# Altium footprint library CurrentSense.PcbLib: 4 footprints
Each footprint in its own frame and in the unit in brackets; x right, y up, seen from the top. Pads: shape width x height; smd on the part's side, far side on the other; paste and mask are expansions set on the pad; w line width, h text height; cw(c..) or ccw(c..) is an arc to the next point about the centre after c.
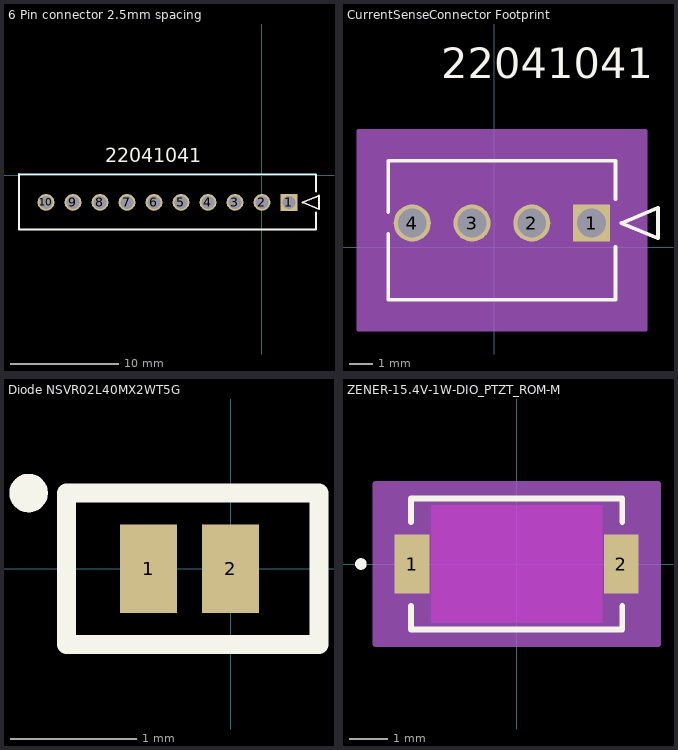
[diagram p0: the footprints below, top view; thin cyan lines are the x and y axes]

## 6 Pin connector 2.5mm spacing [mm]
pads (10):
  rect 1.55x1.55 / inner round 1.524 / far side rect 1.55x1.55 hole 1.2 paste-2539.97 mask+0.076: 1(2.5,-2.5)
  round 1.55 / inner round 1.524 / far side round 1.55 hole 1.2 paste-2539.97 mask+0.076: 2(0,-2.5) 3(-2.5,-2.5) 4(-5,-2.5) 5(-7.5,-2.5) 6(-10,-2.5) 7(-12.5,-2.5) 8(-15,-2.5) 9(-17.5,-2.5) 10(-20,-2.5)
Top Overlay:
  lines w0.152: -22.5,-2.794 -22.5,0.127 ; -22.5,-2.5 -22.5,-5 5,-5 ; -22.5,0.1 5,0.1 5,-1.497 ; 5,-5.013 5,-3.416 ; 3.754,-2.5 5.278,-3.135 5.278,-1.865 3.754,-2.5
  text "22041041" at -14.492,1.23 h1.27
Mechanical 13:
  lines w0.127: 3.754,-2.5 5.278,-1.865 5.278,-3.135 3.754,-2.5
  text "22041041" at -14.492,1.23 h1.27

## CurrentSenseConnector Footprint [mm]
pads (4):
  rect 1.55x1.55 / inner round 1.524 / far side rect 1.55x1.55 hole 1.2 paste-2539.97 mask+0.076: 1(4.064,1.016)
  round 1.55 / inner round 1.524 / far side round 1.55 hole 1.2 paste-2539.97 mask+0.076: 2(1.564,1.016) 3(-0.936,1.016) 4(-3.436,1.016)
Top Overlay:
  lines w0.152: -4.436,0.57 -4.436,-2.184 5.064,-2.184 5.064,0.013 ; -4.436,1.462 -4.436,3.616 5.064,3.616 5.064,2.019 ; 5.318,1.016 6.842,0.381 6.842,1.651 5.318,1.016
  text "22041041" at -2.226,7.066 h1.27
Mechanical 13:
  lines w0.127: -4.436,-2.184 -4.436,3.616 5.064,3.616 5.064,-2.184 -4.436,-2.184 ; 5.318,1.016 6.842,0.381 6.842,1.651 5.318,1.016
  text "22041041" at -2.226,7.066 h1.27
Mechanical 15:
  region: 6.334,4.886 -5.706,4.886 -5.706,-3.454 6.334,-3.454
  lines w0.127: -5.706,-3.454 6.334,-3.454 6.334,4.886 -5.706,4.886 -5.706,-3.454

## Diode NSVR02L40MX2WT5G [mm]
pads (2):
  rect 0.45x0.7 smd mask+0.05: 1(-0.65,0) 2(0,0)
Top Overlay:
  circle w0.152: c-1.6,0.6 r0.076
  lines w0.152: -1.3,-0.6 -1.3,0.6 0.7,0.6 0.7,-0.6 -1.3,-0.6

## ZENER-15.4V-1W-DIO_PTZT_ROM-M [mil] "PTZTE2515B"
pads (2):
  rect 36x61 smd paste+0 mask+0: 1(-108.5,0) 2(108.5,0)
Top Layer keep-out:
  region: -88.5,-61 -88.5,61 88.5,61 88.5,-61
Top Overlay:
  circle w6: c-161.5,0 r3
  lines w6: -109.5,-43.6 -109.5,-68 109.5,-68 109.5,-43.6 ; -109.5,43.6 -109.5,68 109.5,68 109.5,43.6
Keep-Out Layer:
  region: -88.5,-61 -88.5,61 88.5,61 88.5,-61
Mechanical 13:
  circle w0: c-108.5,0 r3
  lines w1: -104.5,-31.5 -73,-63 ; -104.5,31.5 -73,63 ; -104.5,-63 104.5,-63 104.5,63 -104.5,63 -104.5,-63 ; -104.5,-29.5 -104.5,29.5 -104.5,-29.5 ; 104.5,-29.5 104.5,29.5 104.5,-29.5
Mechanical 15:
  region: 146.5,-83 -146.5,-83 -146.5,83 146.5,83
  lines w6: -146.5,-83 -146.5,83 146.5,83 146.5,-83 -146.5,-83